# Altium integrated library WE-MI_rev15a.intlib: 58 symbols
Pins are listed as number, name and electrical type; pins without a type are passive.

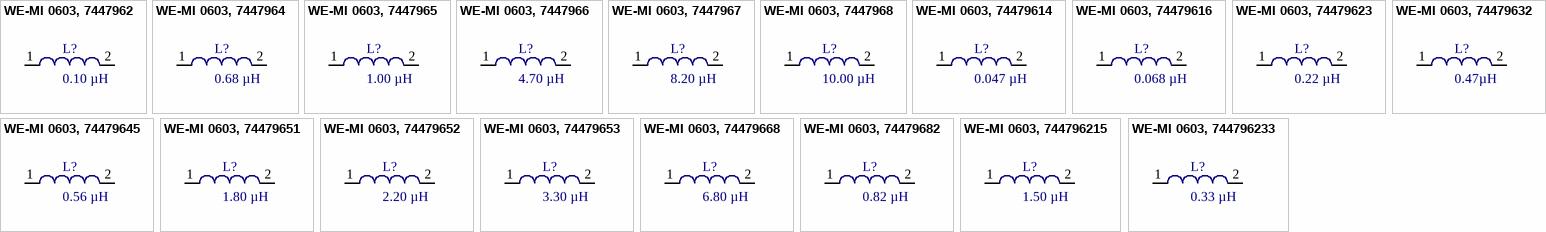
[diagram p0: symbols WE-MI 0603, 7447962 to WE-MI 0603, 744796233]

## WE-MI 0603, 7447962
designator L?, comment 0.10 µH
SMD-Multilayer Inductor WE-MI, L=0.10µH; partNo: 7447962; Manufacturer: Würth Elektronik eiSos GmbH; Inductance: 0.10 µH; ComponentLink1Description: Manufacturer; ComponentLink1URL: http://www.we-online.de; Created by: Christin Zierenner; Created Date: May 2009; ComponentLink2Description: Datasheet; ComponentLink2URL: http://www.we-online.de/katalog/media/pdf/7447962.pdf
footprint SMD 0603 (Chip Inductor, 2-Leads, Body 1,6x0,8mm)
pins: 1, 2

## WE-MI 0603, 7447964
designator L?, comment 0.68 µH
SMD-Multilayer Inductor WE-MI, L=0.68 µH; partNo: 7447964; Manufacturer: Würth Elektronik eiSos GmbH; Inductance: 0.68 µH; ComponentLink1Description: Manufacturer; ComponentLink1URL: http://www.we-online.de; Created by: Christin Zierenner; Created Date: June 2010; ComponentLink2Description: Datasheet; ComponentLink2URL: http://www.we-online.de/katalog/media/pdf/7447964.pdf
footprint SMD 0603 (Chip Inductor, 2-Leads, Body 1,6x0,8mm)
pins: 1, 2

## WE-MI 0603, 7447965
designator L?, comment 1.00 µH
SMD-Multilayer Inductor WE-MI, L=1.00 µH; partNo: 7447965; Manufacturer: Würth Elektronik eiSos GmbH; Inductance: 1.00 µH; ComponentLink1Description: Manufacturer; ComponentLink1URL: http://www.we-online.de; Created by: Christin Zierenner; Created Date: May 2009; ComponentLink2Description: Datasheet; ComponentLink2URL: http://www.we-online.de/katalog/media/pdf/7447965.pdf
footprint SMD 0603 (Chip Inductor, 2-Leads, Body 1,6x0,8mm)
pins: 1, 2

## WE-MI 0603, 7447966
designator L?, comment 4.70 µH
SMD-Multilayer Inductor WE-MI, L=4.70 µH; partNo: 7447966; Manufacturer: Würth Elektronik eiSos GmbH; Inductance: 4.70 µH; ComponentLink1Description: Manufacturer; ComponentLink1URL: http://www.we-online.de; Created by: Christin Zierenner; Created Date: May 2009; ComponentLink2Description: Datasheet; ComponentLink2URL: http://www.we-online.de/katalog/media/pdf/7447966.pdf
footprint SMD 0603 (Chip Inductor, 2-Leads, Body 1,6x0,8mm)
pins: 1, 2

## WE-MI 0603, 7447967
designator L?, comment 8.20 µH
SMD-Multilayer Inductor WE-MI, L=8.20 µH; partNo: 7447967; Manufacturer: Würth Elektronik eiSos GmbH; Inductance: 8.20 µH; ComponentLink1Description: Manufacturer; ComponentLink1URL: http://www.we-online.de; Created by: Christin Zierenner; Created Date: May 2009; ComponentLink2Description: Datasheet; ComponentLink2URL: http://www.we-online.de/katalog/media/pdf/7447967.pdf
footprint SMD 0603 (Chip Inductor, 2-Leads, Body 1,6x0,8mm)
pins: 1, 2

## WE-MI 0603, 7447968
designator L?, comment 10.00 µH
SMD-Multilayer Inductor WE-MI, L=10.00 µH; partNo: 7447968; Manufacturer: Würth Elektronik eiSos GmbH; Inductance: 10.00 µH; ComponentLink1Description: Manufacturer; ComponentLink1URL: http://www.we-online.de; Created by: Christin Zierenner; Created Date: May 2009; ComponentLink2Description: Datasheet; ComponentLink2URL: http://www.we-online.de/katalog/media/pdf/7447968.pdf
footprint SMD 0603 (Chip Inductor, 2-Leads, Body 1,6x0,8mm)
pins: 1, 2

## WE-MI 0603, 74479614
designator L?, comment 0.047 µH
SMD-Multilayer Inductor WE-MI, L=0.047 µH; partNo: 74479614; Manufacturer: Würth Elektronik eiSos GmbH; Inductance: 0.047 µH; ComponentLink1Description: Manufacturer; ComponentLink1URL: http://www.we-online.de; Created by: Christin Zierenner; Created Date: May 2009; ComponentLink2Description: Datasheet; ComponentLink2URL: http://www.we-online.de/katalog/media/pdf/74479614.pdf
footprint SMD 0603 (Chip Inductor, 2-Leads, Body 1,6x0,8mm)
pins: 1, 2

## WE-MI 0603, 74479616
designator L?, comment 0.068 µH
SMD-Multilayer Inductor WE-MI, L=0.068 µH; partNo: 74479616; Manufacturer: Würth Elektronik eiSos GmbH; Inductance: 0.068 µH; ComponentLink1Description: Manufacturer; ComponentLink1URL: http://www.we-online.de; Created by: Christin Zierenner; Created Date: May 2009; ComponentLink2Description: Datasheet; ComponentLink2URL: http://www.we-online.de/katalog/media/pdf/74479616.pdf
footprint SMD 0603 (Chip Inductor, 2-Leads, Body 1,6x0,8mm)
pins: 1, 2

## WE-MI 0603, 74479623
designator L?, comment 0.22 µH
SMD-Multilayer Inductor WE-MI, L=0.22 µH; partNo: 74479623; Manufacturer: Würth Elektronik eiSos GmbH; Inductance: 0.22 µH; ComponentLink1Description: Manufacturer; ComponentLink1URL: http://www.we-online.de; Created by: Christin Zierenner; Created Date: May 2009; ComponentLink2Description: Datasheet; ComponentLink2URL: http://www.we-online.de/katalog/media/pdf/74479623.pdf
footprint SMD 0603 (Chip Inductor, 2-Leads, Body 1,6x0,8mm)
pins: 1, 2

## WE-MI 0603, 74479632
designator L?, comment 0.47µH
SMD-Multilayer Inductor WE-MI, L=0.47 µH; partNo: 74479632; Manufacturer: Würth Elektronik eiSos GmbH; Inductance: 0.47µH; ComponentLink1Description: Manufacturer; ComponentLink1URL: http://www.we-online.de; Created by: Christin Zierenner; Created Date: May 2009; ComponentLink2Description: Datasheet; ComponentLink2URL: http://www.we-online.de/katalog/media/pdf/74479632.pdf
footprint SMD 0603 (Chip Inductor, 2-Leads, Body 1,6x0,8mm)
pins: 1, 2

## WE-MI 0603, 74479645
designator L?, comment 0.56 µH
SMD-Multilayer Inductor WE-MI, L=0.56 µH; partNo: 74479645; Manufacturer: Würth Elektronik eiSos GmbH; Inductance: 0.56 µH; ComponentLink1Description: Manufacturer; ComponentLink1URL: http://www.we-online.de; Created by: Christin Zierenner; Created Date: May 2009; ComponentLink2Description: Datasheet; ComponentLink2URL: http://www.we-online.de/katalog/media/pdf/74479645.pdf
footprint SMD 0603 (Chip Inductor, 2-Leads, Body 1,6x0,8mm)
pins: 1, 2

## WE-MI 0603, 74479651
designator L?, comment 1.80 µH
SMD-Multilayer Inductor WE-MI, L=1.80 µH; partNo: 74479651; Manufacturer: Würth Elektronik eiSos GmbH; Inductance: 1.80 µH; ComponentLink1Description: Manufacturer; ComponentLink1URL: http://www.we-online.de; Created by: Christin Zierenner; Created Date: May 2009; ComponentLink2Description: Datasheet; ComponentLink2URL: http://www.we-online.de/katalog/media/pdf/74479651.pdf
footprint SMD 0603 (Chip Inductor, 2-Leads, Body 1,6x0,8mm)
pins: 1, 2

## WE-MI 0603, 74479652
designator L?, comment 2.20 µH
SMD-Multilayer Inductor WE-MI, L=2.20 µH; partNo: 74479652; Manufacturer: Würth Elektronik eiSos GmbH; Inductance: 2.20 µH; ComponentLink1Description: Manufacturer; ComponentLink1URL: http://www.we-online.de; Created by: Christin Zierenner; Created Date: May 2009; ComponentLink2Description: Datasheet; ComponentLink2URL: http://www.we-online.de/katalog/media/pdf/74479652.pdf
footprint SMD 0603 (Chip Inductor, 2-Leads, Body 1,6x0,8mm)
pins: 1, 2

## WE-MI 0603, 74479653
designator L?, comment 3.30 µH
SMD-Multilayer Inductor WE-MI, L=3.30 µH; partNo: 74479653; Manufacturer: Würth Elektronik eiSos GmbH; Inductance: 3.30 µH; ComponentLink1Description: Manufacturer; ComponentLink1URL: http://www.we-online.de; Created by: Christin Zierenner; Created Date: May 2009; ComponentLink2Description: Datasheet; ComponentLink2URL: http://www.we-online.de/katalog/media/pdf/74479653.pdf
footprint SMD 0603 (Chip Inductor, 2-Leads, Body 1,6x0,8mm)
pins: 1, 2

## WE-MI 0603, 74479668
designator L?, comment 6.80 µH
SMD-Multilayer Inductor WE-MI, L=6.80 µH; partNo: 74479668; Manufacturer: Würth Elektronik eiSos GmbH; Inductance: 6.80 µH; ComponentLink1Description: Manufacturer; ComponentLink1URL: http://www.we-online.de; Created by: Christin Zierenner; Created Date: May 2009; ComponentLink2Description: Datasheet; ComponentLink2URL: http://www.we-online.de/katalog/media/pdf/74479668.pdf
footprint SMD 0603 (Chip Inductor, 2-Leads, Body 1,6x0,8mm)
pins: 1, 2

## WE-MI 0603, 74479682
designator L?, comment 0.82 µH
SMD-Multilayer Inductor WE-MI, L=0.82 µH; partNo: 74479628; Manufacturer: Würth Elektronik eiSos GmbH; Inductance: 0.82 µH; ComponentLink1Description: Manufacturer; ComponentLink1URL: http://www.we-online.de; Created by: Christin Zierenner; Created Date: May 2009; ComponentLink2Description: Datasheet; ComponentLink2URL: http://www.we-online.de/katalog/media/pdf/74479628.pdf
footprint SMD 0603 (Chip Inductor, 2-Leads, Body 1,6x0,8mm)
pins: 1, 2

## WE-MI 0603, 744796215
designator L?, comment 1.50 µH
SMD-Multilayer Inductor WE-MI, L=1.50 µH; partNo: 744796215; Manufacturer: Würth Elektronik eiSos GmbH; Inductance: 1.50 µH; ComponentLink1Description: Manufacturer; ComponentLink1URL: http://www.we-online.de; Created by: Christin Zierenner; Created Date: May 2009; ComponentLink2Description: Datasheet; ComponentLink2URL: http://www.we-online.de/katalog/media/pdf/744796215.pdf
footprint SMD 0603 (Chip Inductor, 2-Leads, Body 1,6x0,8mm)
pins: 1, 2

## WE-MI 0603, 744796233
designator L?, comment 0.33 µH
SMD-Multilayer Inductor WE-MI, L=0.33 µH; partNo: 744796233; Manufacturer: Würth Elektronik eiSos GmbH; Inductance: 0.33 µH; ComponentLink1Description: Manufacturer; ComponentLink1URL: http://www.we-online.de; Created by: Christin Zierenner; Created Date: May 2009; ComponentLink2Description: Datasheet; ComponentLink2URL: http://www.we-online.de/katalog/media/pdf/744796233.pdf
footprint SMD 0603 (Chip Inductor, 2-Leads, Body 1,6x0,8mm)
pins: 1, 2


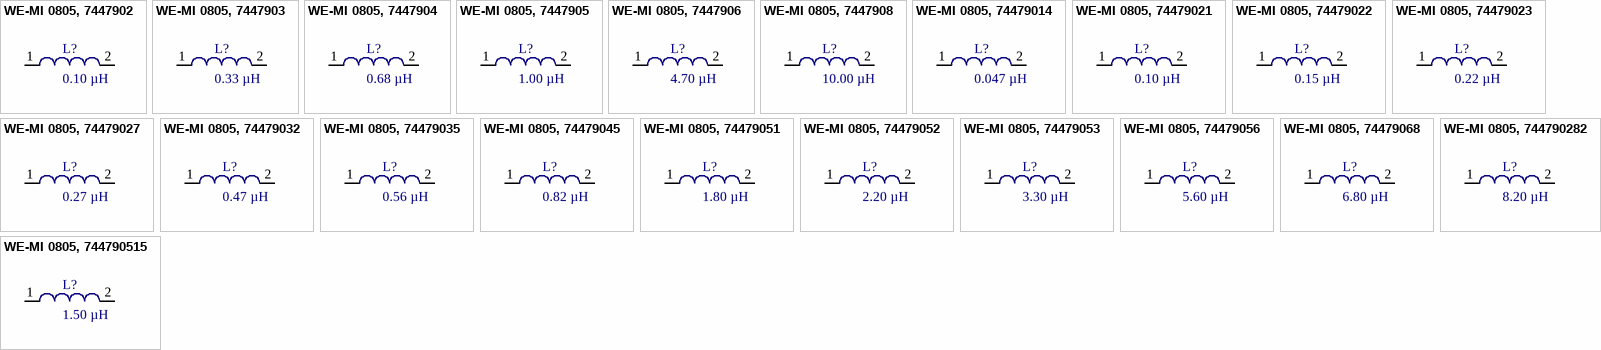
[diagram p1: symbols WE-MI 0805, 7447902 to WE-MI 0805, 744790515]

## WE-MI 0805, 7447902
designator L?, comment 0.10 µH
SMD-Multilayer Inductor WE-MI, L=0.10 µH; partNo: 7447902; Manufacturer: Würth Elektronik eiSos GmbH; Inductance: 0.10 µH; ComponentLink1Description: Manufacturer; ComponentLink1URL: http://www.we-online.de; Created by: Christin Zierenner; Created Date: May 2009; ComponentLink2Description: Datasheet; ComponentLink2URL: http://www.we-online.de/katalog/media/pdf/7447902.pdf
footprint SMD 0805 (Chip Inductor, 2-Leads, Body 2,0x1,2mm)
pins: 1, 2

## WE-MI 0805, 7447903
designator L?, comment 0.33 µH
SMD-Multilayer Inductor WE-MI, L=0.33 µH; partNo: 7447903; Manufacturer: Würth Elektronik eiSos GmbH; Inductance: 0.33 µH; ComponentLink1Description: Manufacturer; ComponentLink1URL: http://www.we-online.de; Created by: Christin Zierenner; Created Date: May 2009; ComponentLink2Description: Datasheet; ComponentLink2URL: http://www.we-online.de/katalog/media/pdf/7447903.pdf
footprint SMD 0805 (Chip Inductor, 2-Leads, Body 2,0x1,2mm)
pins: 1, 2

## WE-MI 0805, 7447904
designator L?, comment 0.68 µH
SMD-Multilayer Inductor WE-MI, L=0.68 µH; partNo: 7447904; Manufacturer: Würth Elektronik eiSos GmbH; Inductance: 0.68 µH; ComponentLink1Description: Manufacturer; ComponentLink1URL: http://www.we-online.de; Created by: Christin Zierenner; Created Date: May 2009; ComponentLink2Description: Datasheet; ComponentLink2URL: http://www.we-online.de/katalog/media/pdf/7447904.pdf
footprint SMD 0805 (Chip Inductor, 2-Leads, Body 2,0x1,2mm)
pins: 1, 2

## WE-MI 0805, 7447905
designator L?, comment 1.00 µH
SMD-Multilayer Inductor WE-MI, L=1.00 µH; partNo: 7447905; Manufacturer: Würth Elektronik eiSos GmbH; Inductance: 1.00 µH; ComponentLink1Description: Manufacturer; ComponentLink1URL: http://www.we-online.de; Created by: Christin Zierenner; Created Date: May 2009; ComponentLink2Description: Datasheet; ComponentLink2URL: http://www.we-online.de/katalog/media/pdf/7447905.pdf
footprint SMD 0805 (Chip Inductor, 2-Leads, Body 2,0x1,2mm)
pins: 1, 2

## WE-MI 0805, 7447906
designator L?, comment 4.70 µH
SMD-Multilayer Inductor WE-MI, L=4.70 µH; partNo: 7447906; Manufacturer: Würth Elektronik eiSos GmbH; Inductance: 4.70 µH; ComponentLink1Description: Manufacturer; ComponentLink1URL: http://www.we-online.de; Created by: Christin Zierenner; Created Date: May 2009; ComponentLink2Description: Datasheet; ComponentLink2URL: http://www.we-online.de/katalog/media/pdf/7447906.pdf
footprint SMD 0805 (Chip Inductor, 2-Leads, Body 2,0x1,2mm)
pins: 1, 2

## WE-MI 0805, 7447908
designator L?, comment 10.00 µH
SMD-Multilayer Inductor WE-MI, L=10.00 µH; partNo: 7447908; Manufacturer: Würth Elektronik eiSos GmbH; Inductance: 10.00 µH; ComponentLink1Description: Manufacturer; ComponentLink1URL: http://www.we-online.de; Created by: Christin Zierenner; Created Date: May 2009; ComponentLink2Description: Datasheet; ComponentLink2URL: http://www.we-online.de/katalog/media/pdf/7447908.pdf
footprint SMD 0805 (Chip Inductor, 2-Leads, Body 2,0x1,2mm)
pins: 1, 2

## WE-MI 0805, 74479014
designator L?, comment 0.047 µH
SMD-Multilayer Inductor WE-MI, L=0.047 µH; partNo: 74479014; Manufacturer: Würth Elektronik eiSos GmbH; Inductance: 0.047 µH; ComponentLink1Description: Manufacturer; ComponentLink1URL: http://www.we-online.de; Created by: Christin Zierenner; Created Date: May 2009; ComponentLink2Description: Datasheet; ComponentLink2URL: http://www.we-online.de/katalog/media/pdf/74479014.pdf
footprint SMD 0805 (Chip Inductor, 2-Leads, Body 2,0x1,2mm)
pins: 1, 2

## WE-MI 0805, 74479021
designator L?, comment 0.10 µH
SMD-Multilayer Inductor WE-MI, L=0.10 µH; partNo: 74479021; Manufacturer: Würth Elektronik eiSos GmbH; Inductance: 0.10 µH; ComponentLink1Description: Manufacturer; ComponentLink1URL: http://www.we-online.de; Created by: Christin Zierenner; Created Date: May 2009; ComponentLink2Description: Datasheet; ComponentLink2URL: http://www.we-online.de/katalog/media/pdf/74479021.pdf
footprint SMD 0805 (Chip Inductor, 2-Leads, Body 2,0x1,2mm)
pins: 1, 2

## WE-MI 0805, 74479022
designator L?, comment 0.15 µH
SMD-Multilayer Inductor WE-MI, L=0.15 µH; partNo: 74479022; Manufacturer: Würth Elektronik eiSos GmbH; Inductance: 0.15 µH; ComponentLink1Description: Manufacturer; ComponentLink1URL: http://www.we-online.de; Created by: Christin Zierenner; Created Date: May 2009; ComponentLink2Description: Datasheet; ComponentLink2URL: http://www.we-online.de/katalog/media/pdf/74479022.pdf
footprint SMD 0805 (Chip Inductor, 2-Leads, Body 2,0x1,2mm)
pins: 1, 2

## WE-MI 0805, 74479023
designator L?, comment 0.22 µH
SMD-Multilayer Inductor WE-MI, L=0.22 µH; partNo: 74479023; Manufacturer: Würth Elektronik eiSos GmbH; Inductance: 0.22 µH; ComponentLink1Description: Manufacturer; ComponentLink1URL: http://www.we-online.de; Created by: Christin Zierenner; Created Date: May 2009; ComponentLink2Description: Datasheet; ComponentLink2URL: http://www.we-online.de/katalog/media/pdf/74479023.pdf
footprint SMD 0805 (Chip Inductor, 2-Leads, Body 2,0x1,2mm)
pins: 1, 2

## WE-MI 0805, 74479027
designator L?, comment 0.27 µH
SMD-Multilayer Inductor WE-MI, L=0.27 µH; partNo: 74479027; Manufacturer: Würth Elektronik eiSos GmbH; Inductance: 0.27 µH; ComponentLink1Description: Manufacturer; ComponentLink1URL: http://www.we-online.de; Created by: Christin Zierenner; Created Date: May 2009; ComponentLink2Description: Datasheet; ComponentLink2URL: http://www.we-online.de/katalog/media/pdf/74479027.pdf
footprint SMD 0805 (Chip Inductor, 2-Leads, Body 2,0x1,2mm)
pins: 1, 2

## WE-MI 0805, 74479032
designator L?, comment 0.47 µH
SMD-Multilayer Inductor WE-MI, L=0.47 µH; partNo: 74479032; Manufacturer: Würth Elektronik eiSos GmbH; Inductance: 0.47 µH; ComponentLink1Description: Manufacturer; ComponentLink1URL: http://www.we-online.de; Created by: Christin Zierenner; Created Date: May 2009; ComponentLink2Description: Datasheet; ComponentLink2URL: http://www.we-online.de/katalog/media/pdf/74479032.pdf
footprint SMD 0805 (Chip Inductor, 2-Leads, Body 2,0x1,2mm)
pins: 1, 2

## WE-MI 0805, 74479035
designator L?, comment 0.56 µH
SMD-Multilayer Inductor WE-MI, L=0.56 µH; partNo: 74479035; Manufacturer: Würth Elektronik eiSos GmbH; Inductance: 0.56 µH; ComponentLink1Description: Manufacturer; ComponentLink1URL: http://www.we-online.de; Created by: Christin Zierenner; Created Date: May 2009; ComponentLink2Description: Datasheet; ComponentLink2URL: http://www.we-online.de/katalog/media/pdf/74479035.pdf
footprint SMD 0805 (Chip Inductor, 2-Leads, Body 2,0x1,2mm)
pins: 1, 2

## WE-MI 0805, 74479045
designator L?, comment 0.82 µH
SMD-Multilayer Inductor WE-MI, L=0.82 µH; partNo: 74479045; Manufacturer: Würth Elektronik eiSos GmbH; Inductance: 0.82 µH; ComponentLink1Description: Manufacturer; ComponentLink1URL: http://www.we-online.de; Created by: Christin Zierenner; Created Date: May 2009; ComponentLink2Description: Datasheet; ComponentLink2URL: http://www.we-online.de/katalog/media/pdf/74479045.pdf
footprint SMD 0805 (Chip Inductor, 2-Leads, Body 2,0x1,2mm)
pins: 1, 2

## WE-MI 0805, 74479051
designator L?, comment 1.80 µH
SMD-Multilayer Inductor WE-MI, L=1.80 µH; partNo: 74479051; Manufacturer: Würth Elektronik eiSos GmbH; Inductance: 1.80 µH; ComponentLink1Description: Manufacturer; ComponentLink1URL: http://www.we-online.de; Created by: Christin Zierenner; Created Date: May 2009; ComponentLink2Description: Datasheet; ComponentLink2URL: http://www.we-online.de/katalog/media/pdf/74479051.pdf
footprint SMD 0805 (Chip Inductor, 2-Leads, Body 2,0x1,2mm)
pins: 1, 2

## WE-MI 0805, 74479052
designator L?, comment 2.20 µH
SMD-Multilayer Inductor WE-MI, L=2.20 µH; partNo: 74479052; Manufacturer: Würth Elektronik eiSos GmbH; Inductance: 2.20 µH; ComponentLink1Description: Manufacturer; ComponentLink1URL: http://www.we-online.de; Created by: Christin Zierenner; Created Date: May 2009; ComponentLink2Description: Datasheet; ComponentLink2URL: http://www.we-online.de/katalog/media/pdf/74479052.pdf
footprint SMD 0805 (Chip Inductor, 2-Leads, Body 2,0x1,2mm)
pins: 1, 2

## WE-MI 0805, 74479053
designator L?, comment 3.30 µH
SMD-Multilayer Inductor WE-MI, L=3.30 µH; partNo: 74479053; Manufacturer: Würth Elektronik eiSos GmbH; Inductance: 3.30 µH; ComponentLink1Description: Manufacturer; ComponentLink1URL: http://www.we-online.de; Created by: Christin Zierenner; Created Date: May 2009; ComponentLink2Description: Datasheet; ComponentLink2URL: http://www.we-online.de/katalog/media/pdf/74479053.pdf
footprint SMD 0805 (Chip Inductor, 2-Leads, Body 2,0x1,2mm)
pins: 1, 2

## WE-MI 0805, 74479056
designator L?, comment 5.60 µH
SMD-Multilayer Inductor WE-MI, L=5.60 µH; partNo: 74479056; Manufacturer: Würth Elektronik eiSos GmbH; Inductance: 5.60 µH; ComponentLink1Description: Manufacturer; ComponentLink1URL: http://www.we-online.de; Created by: Christin Zierenner; Created Date: May 2009; ComponentLink2Description: Datasheet; ComponentLink2URL: http://www.we-online.de/katalog/media/pdf/74479056.pdf
footprint SMD 0805 (Chip Inductor, 2-Leads, Body 2,0x1,2mm)
pins: 1, 2

## WE-MI 0805, 74479068
designator L?, comment 6.80 µH
SMD-Multilayer Inductor WE-MI, L=6.80 µH; partNo: 74479068; Manufacturer: Würth Elektronik eiSos GmbH; Inductance: 6.80 µH; ComponentLink1Description: Manufacturer; ComponentLink1URL: http://www.we-online.de; Created by: Christin Zierenner; Created Date: May 2009; ComponentLink2Description: Datasheet; ComponentLink2URL: http://www.we-online.de/katalog/media/pdf/74479068.pdf
footprint SMD 0805 (Chip Inductor, 2-Leads, Body 2,0x1,2mm)
pins: 1, 2

## WE-MI 0805, 744790282
designator L?, comment 8.20 µH
SMD-Multilayer Inductor WE-MI, L=8.20 µH; partNo: 744790282; Manufacturer: Würth Elektronik eiSos GmbH; Inductance: 8.20 µH; ComponentLink1Description: Manufacturer; ComponentLink1URL: http://www.we-online.de; Created by: Christin Zierenner; Created Date: May 2009; ComponentLink2Description: Datasheet; ComponentLink2URL: http://www.we-online.de/katalog/media/pdf/744790282.pdf
footprint SMD 0805 (Chip Inductor, 2-Leads, Body 2,0x1,2mm)
pins: 1, 2

## WE-MI 0805, 744790515
designator L?, comment 1.50 µH
SMD-Multilayer Inductor WE-MI, L=1.50 µH; partNo: 744790515; Manufacturer: Würth Elektronik eiSos GmbH; Inductance: 1.50 µH; ComponentLink1Description: Manufacturer; ComponentLink1URL: http://www.we-online.de; Created by: Christin Zierenner; Created Date: May 2009; ComponentLink2Description: Datasheet; ComponentLink2URL: http://www.we-online.de/katalog/media/pdf/744790515.pdf
footprint SMD 0805 (Chip Inductor, 2-Leads, Body 2,0x1,2mm)
pins: 1, 2


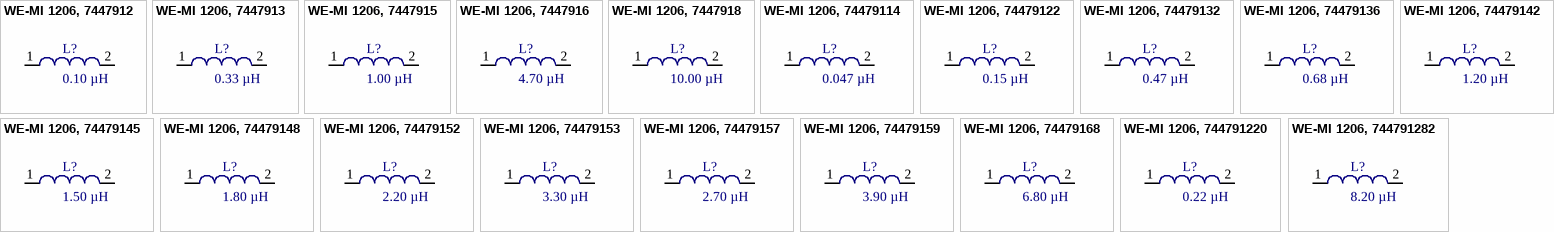
[diagram p2: symbols WE-MI 1206, 7447912 to WE-MI 1206, 744791282]

## WE-MI 1206, 7447912
designator L?, comment 0.10 µH
SMD-Multilayer Inductor WE-MI, L=0.10 µH; partNo: 7447912; Manufacturer: Würth Elektronik eiSos GmbH; Inductance: 0.10 µH; ComponentLink1Description: Manufacturer; ComponentLink1URL: http://www.we-online.de; Created by: Christin Zierenner; Created Date: May 2009; ComponentLink2Description: Datasheet; ComponentLink2URL: http://www.we-online.de/katalog/media/pdf/7447912.pdf
footprint SMD 1210 (Chip Inductor, 2-Leads, Body 3,2x2,5mm)
pins: 1, 2

## WE-MI 1206, 7447913
designator L?, comment 0.33 µH
SMD-Multilayer Inductor WE-MI, L=0.33 µH; partNo: 7447913; Manufacturer: Würth Elektronik eiSos GmbH; Inductance: 0.33 µH; ComponentLink1Description: Manufacturer; ComponentLink1URL: http://www.we-online.de; Created by: Christin Zierenner; Created Date: May 2009; ComponentLink2Description: Datasheet; ComponentLink2URL: http://www.we-online.de/katalog/media/pdf/7447913.pdf
footprint SMD 1210 (Chip Inductor, 2-Leads, Body 3,2x2,5mm)
pins: 1, 2

## WE-MI 1206, 7447915
designator L?, comment 1.00 µH
SMD-Multilayer Inductor WE-MI, L=1.00 µH; partNo: 7447915; Manufacturer: Würth Elektronik eiSos GmbH; Inductance: 1.00 µH; ComponentLink1Description: Manufacturer; ComponentLink1URL: http://www.we-online.de; Created by: Christin Zierenner; Created Date: May 2009; ComponentLink2Description: Datasheet; ComponentLink2URL: http://www.we-online.de/katalog/media/pdf/7447915.pdf
footprint SMD 1210 (Chip Inductor, 2-Leads, Body 3,2x2,5mm)
pins: 1, 2

## WE-MI 1206, 7447916
designator L?, comment 4.70 µH
SMD-Multilayer Inductor WE-MI, L=4.70 µH; partNo: 7447916; Manufacturer: Würth Elektronik eiSos GmbH; Inductance: 4.70 µH; ComponentLink1Description: Manufacturer; ComponentLink1URL: http://www.we-online.de; Created by: Christin Zierenner; Created Date: May 2009; ComponentLink2Description: Datasheet; ComponentLink2URL: http://www.we-online.de/katalog/media/pdf/7447916.pdf
footprint SMD 1210 (Chip Inductor, 2-Leads, Body 3,2x2,5mm)
pins: 1, 2

## WE-MI 1206, 7447918
designator L?, comment 10.00 µH
SMD-Multilayer Inductor WE-MI, L=10.00 µH; partNo: 7447918; Manufacturer: Würth Elektronik eiSos GmbH; Inductance: 10.00 µH; ComponentLink1Description: Manufacturer; ComponentLink1URL: http://www.we-online.de; Created by: Christin Zierenner; Created Date: May 2009; ComponentLink2Description: Datasheet; ComponentLink2URL: http://www.we-online.de/katalog/media/pdf/7447918.pdf
footprint SMD 1210 (Chip Inductor, 2-Leads, Body 3,2x2,5mm)
pins: 1, 2

## WE-MI 1206, 74479114
designator L?, comment 0.047 µH
SMD-Multilayer Inductor WE-MI, L=0.047 µH; partNo: 74479114; Manufacturer: Würth Elektronik eiSos GmbH; Inductance: 0.047 µH; ComponentLink1Description: Manufacturer; ComponentLink1URL: http://www.we-online.de; Created by: Christin Zierenner; Created Date: May 2009; ComponentLink2Description: Datasheet; ComponentLink2URL: http://www.we-online.de/katalog/media/pdf/74479114.pdf
footprint SMD 1210 (Chip Inductor, 2-Leads, Body 3,2x2,5mm)
pins: 1, 2

## WE-MI 1206, 74479122
designator L?, comment 0.15 µH
SMD-Multilayer Inductor WE-MI, L=0.15 µH; partNo: 74479122; Manufacturer: Würth Elektronik eiSos GmbH; Inductance: 0.15 µH; ComponentLink1Description: Manufacturer; ComponentLink1URL: http://www.we-online.de; Created by: Christin Zierenner; Created Date: May 2009; ComponentLink2Description: Datasheet; ComponentLink2URL: http://www.we-online.de/katalog/media/pdf/74479122.pdf
footprint SMD 1210 (Chip Inductor, 2-Leads, Body 3,2x2,5mm)
pins: 1, 2

## WE-MI 1206, 74479132
designator L?, comment 0.47 µH
SMD-Multilayer Inductor WE-MI, L=0.47 µH; partNo: 74479132; Manufacturer: Würth Elektronik eiSos GmbH; Inductance: 0.47 µH; ComponentLink1Description: Manufacturer; ComponentLink1URL: http://www.we-online.de; Created by: Christin Zierenner; Created Date: May 2009; ComponentLink2Description: Datasheet; ComponentLink2URL: http://www.we-online.de/katalog/media/pdf/74479132.pdf
footprint SMD 1210 (Chip Inductor, 2-Leads, Body 3,2x2,5mm)
pins: 1, 2

## WE-MI 1206, 74479136
designator L?, comment 0.68 µH
SMD-Multilayer Inductor WE-MI, L=0.68 µH; partNo: 74479136; Manufacturer: Würth Elektronik eiSos GmbH; Inductance: 0.68 µH; ComponentLink1Description: Manufacturer; ComponentLink1URL: http://www.we-online.de; Created by: Christin Zierenner; Created Date: May 2009; ComponentLink2Description: Datasheet; ComponentLink2URL: http://www.we-online.de/katalog/media/pdf/74479136.pdf
footprint SMD 1210 (Chip Inductor, 2-Leads, Body 3,2x2,5mm)
pins: 1, 2

## WE-MI 1206, 74479142
designator L?, comment 1.20 µH
SMD-Multilayer Inductor WE-MI, L=1.20 µH; partNo: 74479142; Manufacturer: Würth Elektronik eiSos GmbH; Inductance: 1.20 µH; ComponentLink1Description: Manufacturer; ComponentLink1URL: http://www.we-online.de; Created by: Christin Zierenner; Created Date: May 2009; ComponentLink2Description: Datasheet; ComponentLink2URL: http://www.we-online.de/katalog/media/pdf/74479142.pdf
footprint SMD 1210 (Chip Inductor, 2-Leads, Body 3,2x2,5mm)
pins: 1, 2

## WE-MI 1206, 74479145
designator L?, comment 1.50 µH
SMD-Multilayer Inductor WE-MI, L=1.50 µH; partNo: 74479145; Manufacturer: Würth Elektronik eiSos GmbH; Inductance: 1.50 µH; ComponentLink1Description: Manufacturer; ComponentLink1URL: http://www.we-online.de; Created by: Christin Zierenner; Created Date: May 2009; ComponentLink2Description: Datasheet; ComponentLink2URL: http://www.we-online.de/katalog/media/pdf/74479145.pdf
footprint SMD 1210 (Chip Inductor, 2-Leads, Body 3,2x2,5mm)
pins: 1, 2

## WE-MI 1206, 74479148
designator L?, comment 1.80 µH
SMD-Multilayer Inductor WE-MI, L=1.80 µH; partNo: 74479148; Manufacturer: Würth Elektronik eiSos GmbH; Inductance: 1.80 µH; ComponentLink1Description: Manufacturer; ComponentLink1URL: http://www.we-online.de; Created by: Christin Zierenner; Created Date: May 2009; ComponentLink2Description: Datasheet; ComponentLink2URL: http://www.we-online.de/katalog/media/pdf/74479148.pdf
footprint SMD 1210 (Chip Inductor, 2-Leads, Body 3,2x2,5mm)
pins: 1, 2

## WE-MI 1206, 74479152
designator L?, comment 2.20 µH
SMD-Multilayer Inductor WE-MI, L=2.20 µH; partNo: 74479152; Manufacturer: Würth Elektronik eiSos GmbH; Inductance: 2.20 µH; ComponentLink1Description: Manufacturer; ComponentLink1URL: http://www.we-online.de; Created by: Christin Zierenner; Created Date: May 2009; ComponentLink2Description: Datasheet; ComponentLink2URL: http://www.we-online.de/katalog/media/pdf/74479152.pdf
footprint SMD 1210 (Chip Inductor, 2-Leads, Body 3,2x2,5mm)
pins: 1, 2

## WE-MI 1206, 74479153
designator L?, comment 3.30 µH
SMD-Multilayer Inductor WE-MI, L=3.30 µH; partNo: 74479153; Manufacturer: Würth Elektronik eiSos GmbH; Inductance: 3.30 µH; ComponentLink1Description: Manufacturer; ComponentLink1URL: http://www.we-online.de; Created by: Christin Zierenner; Created Date: May 2009; ComponentLink2Description: Datasheet; ComponentLink2URL: http://www.we-online.de/katalog/media/pdf/74479153.pdf
footprint SMD 1210 (Chip Inductor, 2-Leads, Body 3,2x2,5mm)
pins: 1, 2

## WE-MI 1206, 74479157
designator L?, comment 2.70 µH
SMD-Multilayer Inductor WE-MI, L=2.70 µH; partNo: 74479157; Manufacturer: Würth Elektronik eiSos GmbH; Inductance: 2.70 µH; ComponentLink1Description: Manufacturer; ComponentLink1URL: http://www.we-online.de; Created by: Christin Zierenner; Created Date: May 2009; ComponentLink2Description: Datasheet; ComponentLink2URL: http://www.we-online.de/katalog/media/pdf/74479157.pdf
footprint SMD 1210 (Chip Inductor, 2-Leads, Body 3,2x2,5mm)
pins: 1, 2

## WE-MI 1206, 74479159
designator L?, comment 3.90 µH
SMD-Multilayer Inductor WE-MI, L=3.90 µH; partNo: 74479159; Manufacturer: Würth Elektronik eiSos GmbH; Inductance: 3.90 µH; ComponentLink1Description: Manufacturer; ComponentLink1URL: http://www.we-online.de; Created by: Christin Zierenner; Created Date: May 2009; ComponentLink2Description: Datasheet; ComponentLink2URL: http://www.we-online.de/katalog/media/pdf/74479159.pdf
footprint SMD 1210 (Chip Inductor, 2-Leads, Body 3,2x2,5mm)
pins: 1, 2

## WE-MI 1206, 74479168
designator L?, comment 6.80 µH
SMD-Multilayer Inductor WE-MI, L=6.80 µH; partNo: 74479168; Manufacturer: Würth Elektronik eiSos GmbH; Inductance: 6.80 µH; ComponentLink1Description: Manufacturer; ComponentLink1URL: http://www.we-online.de; Created by: Christin Zierenner; Created Date: May 2009; ComponentLink2Description: Datasheet; ComponentLink2URL: http://www.we-online.de/katalog/media/pdf/74479168.pdf
footprint SMD 1210 (Chip Inductor, 2-Leads, Body 3,2x2,5mm)
pins: 1, 2

## WE-MI 1206, 744791220
designator L?, comment 0.22 µH
SMD-Multilayer Inductor WE-MI, L=0.22 µH; partNo: 744791220; Manufacturer: Würth Elektronik eiSos GmbH; Inductance: 0.22 µH; ComponentLink1Description: Manufacturer; ComponentLink1URL: http://www.we-online.de; Created by: Christin Zierenner; Created Date: May 2009; ComponentLink2Description: Datasheet; ComponentLink2URL: http://www.we-online.de/katalog/media/pdf/744791220.pdf
footprint SMD 1210 (Chip Inductor, 2-Leads, Body 3,2x2,5mm)
pins: 1, 2

## WE-MI 1206, 744791282
designator L?, comment 8.20 µH
SMD-Multilayer Inductor WE-MI, L=8.20 µH; partNo: 744791282; Manufacturer: Würth Elektronik eiSos GmbH; Inductance: 8.20 µH; ComponentLink1Description: Manufacturer; ComponentLink1URL: http://www.we-online.de; Created by: Christin Zierenner; Created Date: May 2009; ComponentLink2Description: Datasheet; ComponentLink2URL: http://www.we-online.de/katalog/media/pdf/744791282.pdf
footprint SMD 1210 (Chip Inductor, 2-Leads, Body 3,2x2,5mm)
pins: 1, 2